# Altium schematic symbol library 10142708-06200LF.SchLib: 1 symbol
Pins are listed as number, name and electrical type; pins without a type are passive.

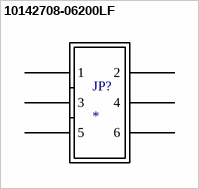
[diagram p0: symbol 10142708-06200LF]

## 10142708-06200LF
designator JP?
footprint 10142708-06200LF (Amphenol FCI 6p2R)
pins: 1, 2, 3, 4, 5, 6